# Altium schematic symbol library ESD7484NCTAG.Schlib: 1 symbol
Pins are listed as number, name and electrical type; pins without a type are passive.

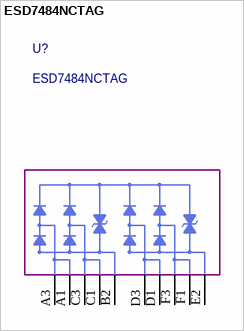
[diagram p0: symbol ESD7484NCTAG]

## ESD7484NCTAG
designator U?
pins: A1 5V, A3 SCL, B2 COM, C1 I2C_5V, C3 HPD, D1 SCL, D3 SCL, E2 SCL, F1 SCL, F3 SCL